# EAGLE library part LTC2956 (library DMF_NE555Project)
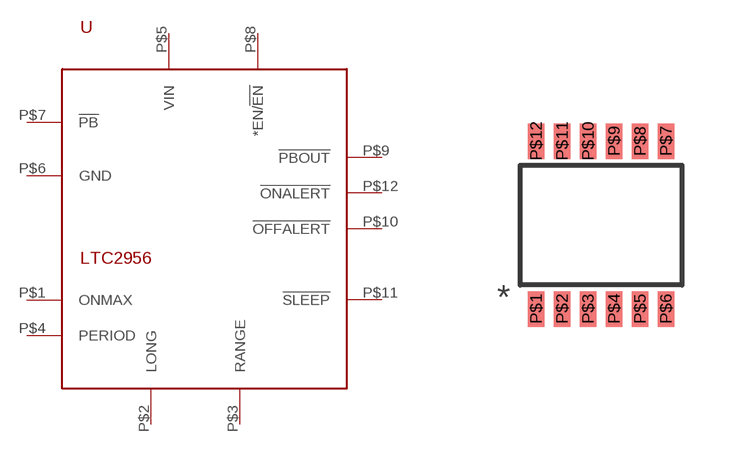
[diagram p1: symbol with the pads of LT2956; footprint LT2956]

Designator prefix U

## LTC2956  [LT2956]
P$1  ONMAX
P$2  LONG
P$3  RANGE
P$4  PERIOD
P$5  VIN
P$6  GND
P$7  !PB
P$8  *EN/!EN
P$9  !PBOUT
P$10  !OFFALERT
P$11  !SLEEP
P$12  !ONALERT

## Footprint LT2956 (pad centres in mm)
MS Package 12-Lead Plastic MSOP Linear Technology LTC2956
smd 0.42 x 0.889: P$1 -1.625,-2.1; P$2 -0.975,-2.1; P$3 -0.325,-2.1; P$4 0.325,-2.1; P$5 0.975,-2.1; P$6 1.625,-2.1; P$7 1.625,2.1; P$8 0.975,2.1; P$9 0.325,2.1; P$10 -0.325,2.1; P$11 -0.975,2.1; P$12 -1.625,2.1